# Altium footprint library Sensor.PcbLib: 73 footprints (part 1 of 5)
Each footprint in its own frame and in the unit in brackets; x right, y up, seen from the top. Pads: shape width x height; smd on the part's side, far side on the other; paste and mask are expansions set on the pad; w line width, h text height; cw(c..) or ccw(c..) is an arc to the next point about the centre after c.
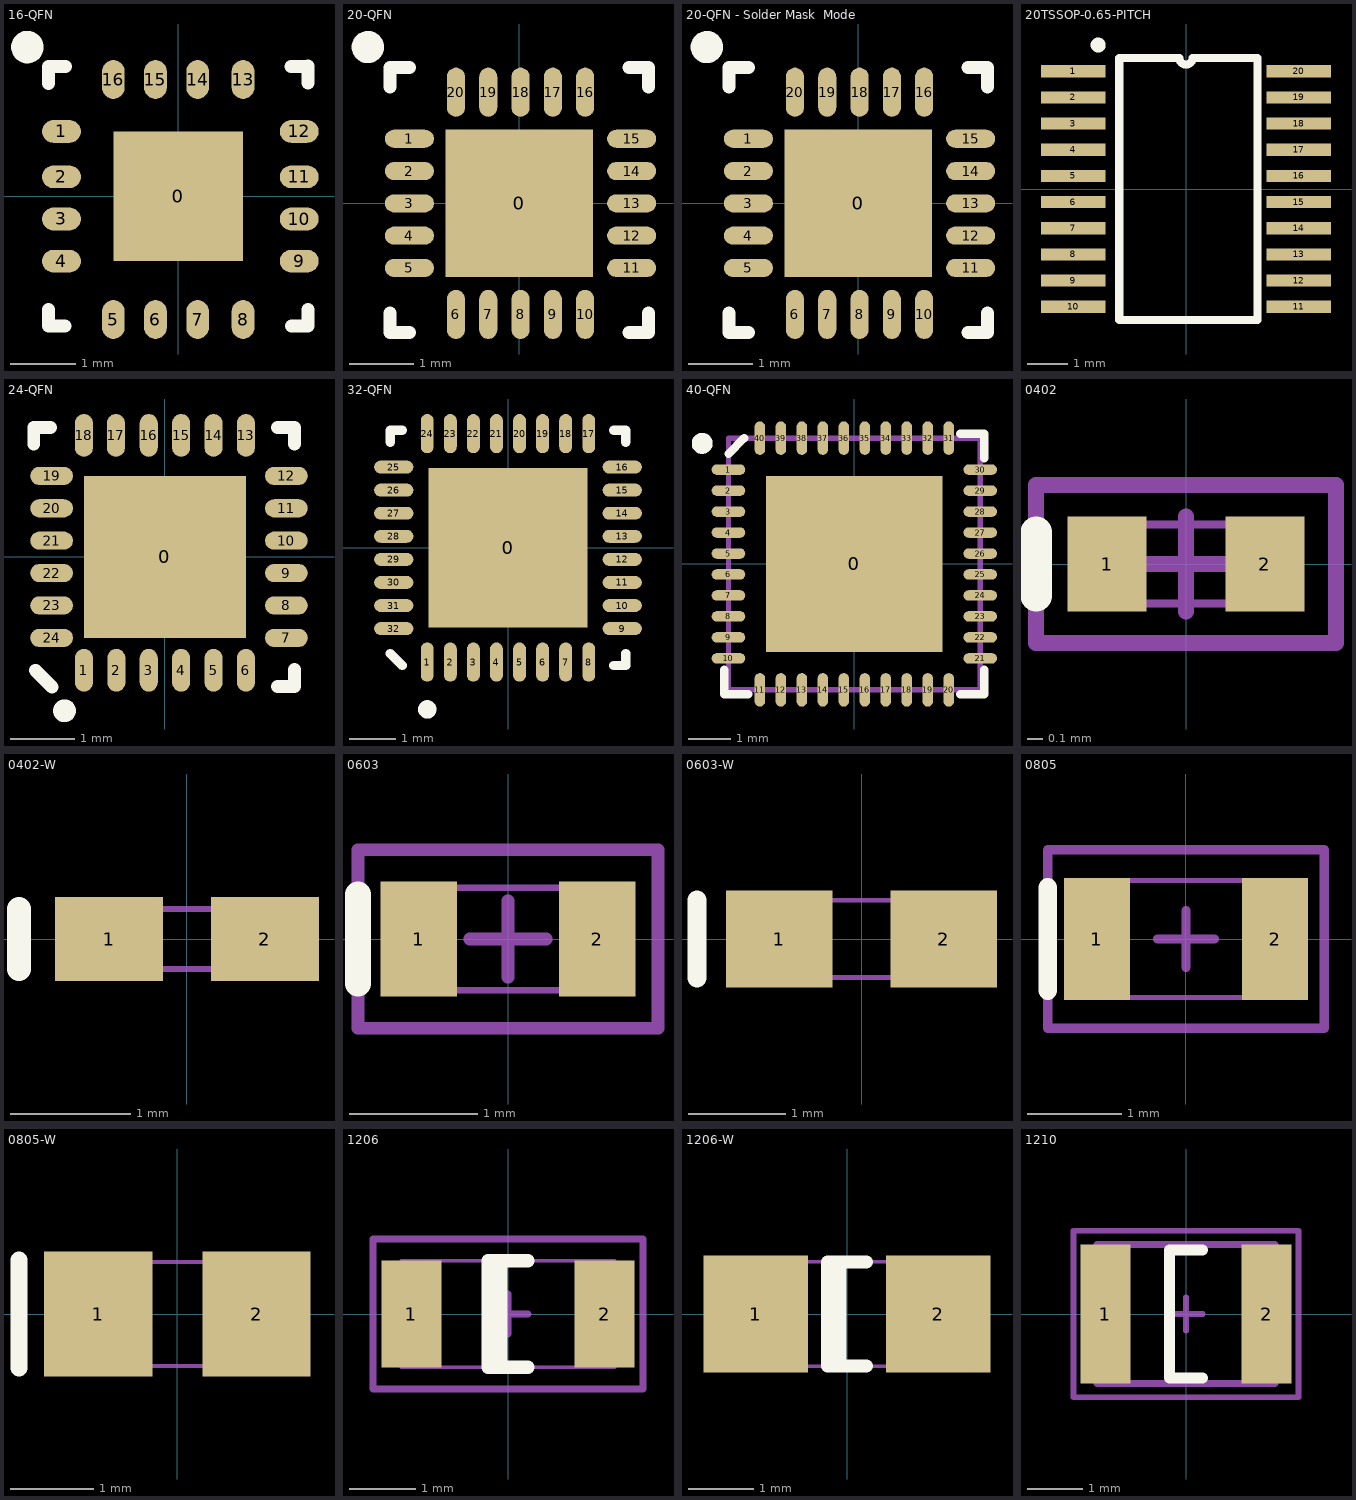
[diagram p0: the footprints below, top view; thin cyan lines are the x and y axes]

## 16-QFN [mm] "16-QFN, LFCSP (CP-16-5) for ADXL330k"
pads (17):
  rect 2x2 smd: 0(0,0)
  oval 0.6x0.35 smd: 1(-1.8,1) 2(-1.8,0.3) 3(-1.8,-0.35) 4(-1.8,-1) 9(1.867,-1) 10(1.867,-0.35) 11(1.867,0.3) 12(1.867,1)
  oval 0.35x0.6 smd: 5(-1,-1.9) 6(-0.35,-1.9) 7(0.3,-1.9) 8(1,-1.9) 13(1,1.8) 14(0.3,1.8) 15(-0.35,1.8) 16(-1,1.8)
Top Overlay:
  circle w0.25: c-2.325,2.3 r0.125
  lines w0.2: -2,-1.746 -2,-2 -1.746,-2 ; -2,1.74 -2,2 -1.74,2 ; 1.74,2 2,2 ; 1.746,-2 2,-2 2,-1.746 ; 2,1.746 2,2.006

## 20-QFN [mm] "20 pin QFN as per CC2500 datasheet"
pads (21):
  rect 2.286x2.286 smd: 0(0,0)
  oval 0.76x0.28 smd: 1(-1.7,1) 2(-1.7,0.5) 3(-1.7,0) 4(-1.7,-0.5) 5(-1.7,-1) 11(1.74,-1) 12(1.74,-0.5) 13(1.74,0) 14(1.74,0.5) 15(1.74,1)
  oval 0.28x0.76 smd: 6(-0.98,-1.72) 7(-0.48,-1.72) 8(0.02,-1.72) 9(0.52,-1.72) 10(1.02,-1.72) 16(1.02,1.72) 17(0.52,1.72) 18(0.02,1.72) 19(-0.48,1.72) 20(-0.98,1.72)
Top Overlay:
  circle w0.25: c-2.344,2.419 r0.125
  lines w0.2: -2,-1.7 -2,-2 -1.7,-2 ; -2,1.8 -2,2.1 -1.7,2.1 ; 1.7,-2 2,-2 2,-1.7 ; 1.7,2.1 2,2.1 2,1.8

## 20-QFN - Solder Mask  Mode [mm] "20 pin QFN as per CC2500 datasheet"
pads (21):
  rect 2.286x2.286 smd paste-0.889 mask-0.762: 0(0,0)
  oval 0.76x0.28 smd: 1(-1.7,1) 2(-1.7,0.5) 3(-1.7,0) 4(-1.7,-0.5) 5(-1.7,-1) 11(1.74,-1) 12(1.74,-0.5) 13(1.74,0) 14(1.74,0.5) 15(1.74,1)
  oval 0.28x0.76 smd: 6(-0.98,-1.72) 7(-0.48,-1.72) 8(0.02,-1.72) 9(0.52,-1.72) 10(1.02,-1.72) 16(1.02,1.72) 17(0.52,1.72) 18(0.02,1.72) 19(-0.48,1.72) 20(-0.98,1.72)
Top Overlay:
  circle w0.25: c-2.344,2.419 r0.125
  lines w0.2: -2,-1.7 -2,-2 -1.7,-2 ; -2,1.8 -2,2.1 -1.7,2.1 ; 1.7,-2 2,-2 2,-1.7 ; 1.7,2.1 2,2.1 2,1.8
Top Paste:
  rectangle: -1.016,-0.254 1.016,0.254
  rectangle: -0.254,-1.016 0.254,1.016
Top Solder:
  rectangle: -0.381,-1.143 0.381,1.143
  rectangle: -1.143,-0.381 1.143,0.381

## 20TSSOP-0.65-PITCH [mm]
pads (20):
  rect 1.6x0.3 smd: 1(-2.8,2.925) 2(-2.8,2.275) 3(-2.8,1.625) 4(-2.8,0.975) 5(-2.8,0.325) 6(-2.8,-0.325) 7(-2.8,-0.975) 8(-2.8,-1.625) 9(-2.8,-2.275) 10(-2.8,-2.925) 11(2.8,-2.925) 12(2.8,-2.275) 13(2.8,-1.625) 14(2.8,-0.975) 15(2.8,-0.325) 16(2.8,0.325) 17(2.8,0.975) 18(2.8,1.625) 19(2.8,2.275) 20(2.8,2.925)
Top Overlay:
  circle w0.254: c-2.182,3.575 r0.057
  lines w0.2: -1.657,-3.25 1.772,-3.25 1.772,3.25 0.162,3.25 cw(c0,3.25) -0.162,3.25 -1.657,3.25 -1.657,-3.25

## 24-QFN [mm] "24-QFN, for MSP430Fx21x1"
height 1
pads (25):
  rect 2.5x2.5 smd: 0(0,0)
  oval 0.28x0.66 smd: 1(-1.25,-1.75) 2(-0.75,-1.75) 3(-0.25,-1.75) 4(0.25,-1.75) 5(0.75,-1.75) 6(1.25,-1.75) 13(1.25,1.875) 14(0.75,1.875) 15(0.25,1.875) 16(-0.25,1.875) 17(-0.757,1.875) 18(-1.25,1.875)
  oval 0.66x0.28 smd: 7(1.875,-1.25) 8(1.875,-0.75) 9(1.875,-0.25) 10(1.875,0.25) 11(1.875,0.75) 12(1.875,1.25) 19(-1.75,1.25) 20(-1.75,0.75) 21(-1.75,0.25) 22(-1.75,-0.25) 23(-1.75,-0.75) 24(-1.75,-1.25)
Top Overlay:
  circle w0.25: c-1.55,-2.375 r0.05
  lines w0.2: -2.025,1.74 -2.025,2 -1.765,2 ; -2,-1.75 -1.74,-2.01 ; 1.74,-2 2,-2 2,-1.74 ; 1.74,2 2,2 2,1.74

## 32-QFN [mm] "32-QFN, for MSP430F1232"
height 1
pads (33):
  rect 3.45x3.45 smd: 0(0,0)
  oval 0.28x0.85 smd: 1(-1.75,-2.475) 2(-1.25,-2.475) 3(-0.75,-2.475) 4(-0.25,-2.475) 5(0.25,-2.475) 6(0.75,-2.475) 7(1.25,-2.475) 8(1.75,-2.475) 17(1.75,2.475) 18(1.25,2.475) 19(0.75,2.475) 20(0.25,2.475) 21(-0.25,2.475) 22(-0.75,2.475) 23(-1.25,2.475) 24(-1.75,2.475)
  oval 0.85x0.28 smd: 9(2.475,-1.75) 10(2.475,-1.25) 11(2.475,-0.75) 12(2.475,-0.25) 13(2.475,0.25) 14(2.475,0.75) 15(2.475,1.25) 16(2.475,1.75) 25(-2.475,1.75) 26(-2.475,1.25) 27(-2.475,0.75) 28(-2.475,0.25) 29(-2.475,-0.25) 30(-2.475,-0.75) 31(-2.475,-1.25) 32(-2.475,-1.75)
Top Overlay:
  circle w0.2: c-1.75,-3.5 r0.1
  lines w0.2: -2.55,-2.29 -2.29,-2.55 ; -2.55,2.29 -2.55,2.55 -2.29,2.55 ; 2.29,-2.55 2.55,-2.55 2.55,-2.29 ; 2.29,2.55 2.55,2.55 2.55,2.29

## 40-QFN [mm] "40-QFN, for MSP430x22x2, x4"
height 1
pads (41):
  rect 4.2x4.2 smd: 0(0,0)
  oval 0.8x0.25 smd: 1(-3,2.25) 2(-3,1.75) 3(-3,1.25) 4(-3,0.75) 5(-3,0.25) 6(-3,-0.25) 7(-3,-0.75) 8(-3,-1.25) 9(-3,-1.75) 10(-3,-2.25) 21(3,-2.25) 22(3,-1.75) 23(3,-1.25) 24(3,-0.75) 25(3,-0.25) 26(3,0.25) 27(3,0.75) 28(3,1.25) 29(3,1.75) 30(3,2.25)
  oval 0.25x0.8 smd: 11(-2.25,-3) 12(-1.75,-3) 13(-1.25,-3) 14(-0.75,-3) 15(-0.25,-3) 16(0.25,-3) 17(0.75,-3) 18(1.25,-3) 19(1.75,-3) 20(2.25,-3) 31(2.25,3) 32(1.75,3) 33(1.25,3) 34(0.75,3) 35(0.25,3) 36(-0.25,3) 37(-0.75,3) 38(-1.25,3) 39(-1.75,3) 40(-2.25,3)
Top Overlay:
  circle w0.25: c-3.625,2.875 r0.125
  lines w0.2: -3.1,-2.525 -3.1,-3.1 -2.525,-3.1 ; -3,2.625 -2.625,3 ; 2.525,-3.1 3.1,-3.1 3.1,-2.525 ; 2.525,3.1 3.1,3.1 3.1,2.525
Mechanical 13:
  lines w0.127: -3,-3 3,-3 3,3 -3,3 -3,-3
Mechanical 15:
  lines w0.1: -0.3,0 0.3,0 ; 0,-0.3 0,0.3
3D body: height 1, standoff 0, extent -3,-3 3,3

## 0402 [mm] "Surface Mount; Body 1 x 0.5 mm (LxW typ)"
height 0.5
pads (2):
  rect 0.5x0.6 smd: 1(-0.5,0) 2(0.5,0)
Top Overlay:
  lines w0.2: -0.95,-0.2 -0.95,0.2
Mechanical 13:
  lines w0.051: -0.5,-0.25 0.5,-0.25 0.5,0.25 -0.5,0.25 -0.5,-0.25
  text ".Designator" at -0.4,-0.1 h0.23
Mechanical 15:
  lines w0.1: -0.3,0 0.3,0 ; 0,-0.3 0,0.3 ; -0.95,-0.5 0.95,-0.5 0.95,0.5 -0.95,0.5 -0.95,-0.5
3D body: height 0.5, standoff 0, extent -0.5,-0.25 0.5,0.25

## 0402-W [mm] "Surface Mount - Wide; Body 1.0 x 0.5 mm (LxW typ)"
height 0.5
pads (2):
  rect 0.9x0.7 smd: 1(-0.65,0) 2(0.65,0)
Top Overlay:
  lines w0.2: -1.4,-0.25 -1.4,0.25
Mechanical 13:
  lines w0.051: -0.5,-0.25 -0.5,0.25 0.5,0.25 0.5,-0.25 -0.5,-0.25
3D body: height 0.5, standoff 0, extent -0.5,-0.25 0.5,0.25

## 0603 [mm] "Surface Mount; Body 1.6 x 0.8 mm (LxW typ)"
height 0.8
pads (2):
  rect 0.6x0.9 smd: 1(-0.7,0) 2(0.7,0)
Top Overlay:
  lines w0.2: -1.175,-0.35 -1.175,0.35
Mechanical 13:
  lines w0.051: -0.8,-0.4 -0.8,0.4 0.8,0.4 0.8,-0.4 -0.8,-0.4
  text ".Designator" at -0.65,-0.1 h0.3
Mechanical 15:
  lines w0.1: -0.3,0 0.3,0 ; 0,-0.3 0,0.3 ; -1.175,-0.7 -1.175,0.7 1.175,0.7 1.175,-0.7 -1.175,-0.7
3D body: height 0.8, standoff 0, extent -0.8,-0.4 0.8,0.4

## 0603-W [mm] "Surface Mount - Wide; Body 1.6 x 0.8 mm (LxW typ)"
height 0.8
pads (2):
  rect 1.1x1 smd: 1(-0.85,0) 2(0.85,0)
Top Overlay:
  lines w0.2: -1.7,-0.4 -1.7,0.4
Mechanical 13:
  lines w0.051: -0.8,-0.4 -0.8,0.4 0.8,0.4 0.8,-0.4 -0.8,-0.4
3D body: height 0.8, standoff 0, extent -0.8,-0.4 0.8,0.4

## 0805 [mm] "Surface Mount; Body 2.0 x 1.25 mm (LxW typ)"
height 1.25
pads (2):
  rect 0.7x1.3 smd: 1(-0.95,0) 2(0.95,0)
Top Overlay:
  lines w0.2: -1.475,-0.55 -1.475,0.55
Mechanical 13:
  lines w0.051: -1,-0.625 -1,0.625 1,0.625 1,-0.625 -1,-0.625
  text ".Designator" at -0.762,-0.127 h0.38
Mechanical 15:
  lines w0.1: -0.3,0 0.3,0 ; 0,-0.3 0,0.3 ; -1.475,-0.95 -1.475,0.95 1.475,0.95 1.475,-0.95 -1.475,-0.95
3D body: height 1.25, standoff 0, extent -1,-0.625 1,0.625

## 0805-W [mm] "Surface Mount - Wide; Body 2.0 x 1.25 mm (LxW typ)"
height 1.25
pads (2):
  rect 1.3x1.5 smd: 1(-0.95,0) 2(0.95,0)
Top Overlay:
  lines w0.2: -1.9,-0.65 -1.9,0.65
Mechanical 13:
  lines w0.051: -1,-0.625 1,-0.625 1,0.625 -1,0.625 -1,-0.625
3D body: height 1.25, standoff 0, extent -1,-0.625 1,0.625

## 1206 [mm] "Surface Mount; Body 3.2 x 1.6 mm (LxW typ)"
height 1.6
pads (2):
  rect 0.9x1.6 smd: 1(-1.45,0) 2(1.45,0)
Top Overlay:
  lines w0.2: -0.11,-0.8 -0.11,0.8 ; 0.3,-0.8 -0.3,-0.8 -0.3,0.8 0.3,0.8
Mechanical 13:
  lines w0.051: -1.6,-0.8 -1.6,0.8 1.6,0.8 1.6,-0.8 -1.6,-0.8
  text ".Designator" at -1.4,-0.35 h0.76
Mechanical 15:
  lines w0.1: -0.3,0 0.3,0 ; 0,-0.3 0,0.3 ; -2.025,-1.125 -2.025,1.125 2.025,1.125 2.025,-1.125 -2.025,-1.125
3D body: height 1.1, standoff 0, extent -1.6,-0.8 1.6,0.8

## 1206-W [mm] "Surface Mount - Wide; Body 3.2 x 1.6 mm (LxW typ)"
height 1.6
pads (2):
  rect 1.6x1.8 smd: 1(-1.4,0) 2(1.4,0)
Top Overlay:
  lines w0.2: -0.11,-0.8 -0.11,0.8 ; 0.3,-0.8 -0.3,-0.8 -0.3,0.8 0.3,0.8
Mechanical 13:
  lines w0.051: -1.6,-0.8 1.6,-0.8 1.6,0.8 -1.6,0.8 -1.6,-0.8
3D body: height 1.1, standoff 0, extent -1.6,-0.8 1.6,0.8

## 1210 [mm] "Surface Mount; Body 3.2 x 2.5 mm (LxW typ)"
height 2.5
pads (2):
  rect 0.9x2.5 smd: 1(-1.45,0) 2(1.45,0)
Top Overlay:
  lines w0.2: 0.3,-1.15 -0.3,-1.15 -0.3,1.15 0.3,1.15
Mechanical 13:
  lines w0.127: -1.6,-1.25 -1.6,1.25 1.6,1.25 1.6,-1.25 -1.6,-1.25
Mechanical 15:
  lines w0.1: -0.3,0 0.3,0 ; 0,-0.3 0,0.3 ; -2.025,-1.5 2.025,-1.5 2.025,1.5 -2.025,1.5 -2.025,-1.5
3D body: height 2.5, standoff 0, extent -1.6,-1.25 1.6,1.25